# EAGLE library part IS43R16320D-TL (library crasbe)
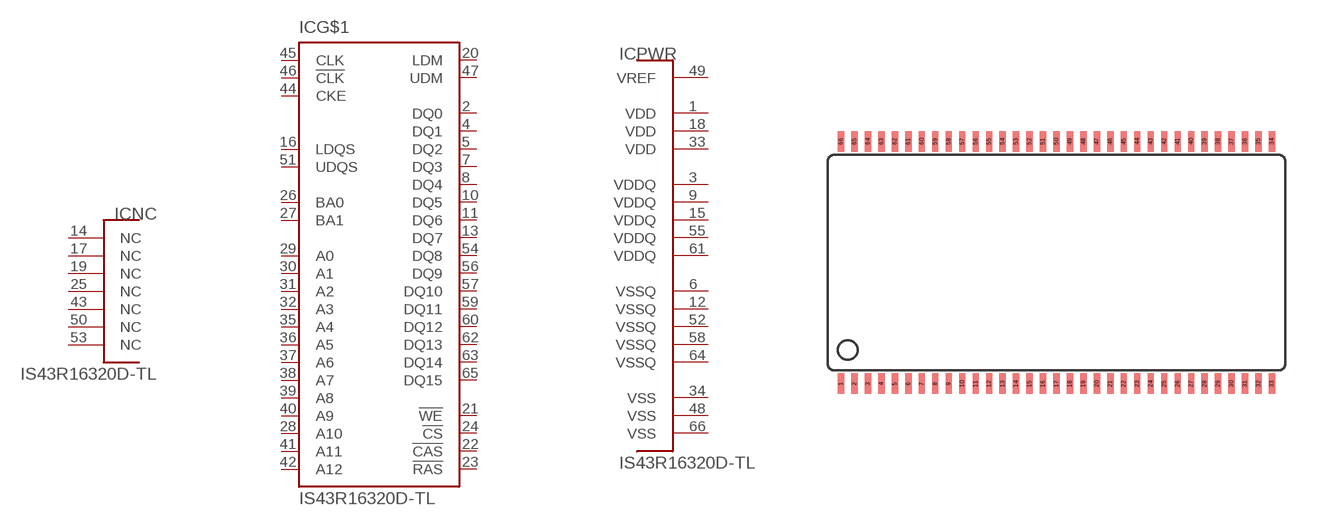
[diagram p43: symbol with the pads of TSOPII-66; footprint TSOPII-66]

Designator prefix IC; gates G$1=DDR-X16 NC=NC7 PWR=DDR-X16PWR

## IS43R16320D-TL  [TSOPII-66]
1  PWR:VDD  pwr
2  G$1:DQ0  hiz
3  PWR:VDDQ  pwr
4  G$1:DQ1  hiz
5  G$1:DQ2  hiz
6  PWR:VSSQ  pwr
7  G$1:DQ3  hiz
8  G$1:DQ4  hiz
9  PWR:VDDQ  pwr
10  G$1:DQ5  hiz
11  G$1:DQ6  hiz
12  PWR:VSSQ  pwr
13  G$1:DQ7  hiz
14  NC:NC  nc
15  PWR:VDDQ  pwr
16  G$1:LDQS  in
17  NC:NC  nc
18  PWR:VDD  pwr
19  NC:NC  nc
20  G$1:LDM  in
21  G$1:!WE  in
22  G$1:!CAS  in
23  G$1:!RAS  in
24  G$1:!CS  in
25  NC:NC  nc
26  G$1:BA0  in
27  G$1:BA1  in
28  G$1:A10  in
29  G$1:A0  in
30  G$1:A1  in
31  G$1:A2  in
32  G$1:A3  in
33  PWR:VDD  pwr
34  PWR:VSS  pwr
35  G$1:A4  in
36  G$1:A5  in
37  G$1:A6  in
38  G$1:A7  in
39  G$1:A8  in
40  G$1:A9  in
41  G$1:A11  in
42  G$1:A12  in
43  NC:NC  nc
44  G$1:CKE  in
45  G$1:CLK  in
46  G$1:!CLK  in
47  G$1:UDM  in
48  PWR:VSS  pwr
49  PWR:VREF  pwr
50  NC:NC  nc
51  G$1:UDQS  in
52  PWR:VSSQ  pwr
53  NC:NC  nc
54  G$1:DQ8  hiz
55  PWR:VDDQ  pwr
56  G$1:DQ9  hiz
57  G$1:DQ10  hiz
58  PWR:VSSQ  pwr
59  G$1:DQ11  hiz
60  G$1:DQ12  hiz
61  PWR:VDDQ  pwr
62  G$1:DQ13  hiz
63  G$1:DQ14  hiz
64  PWR:VSSQ  pwr
65  G$1:DQ15  hiz
66  PWR:VSS  pwr

## Footprint TSOPII-66 (pad centres in mm)
smd 0.305 x 0.991: 1 -10.075,-5.85; 2 -9.425,-5.85; 3 -8.775,-5.85; 4 -8.125,-5.85; 5 -7.475,-5.85; 6 -6.825,-5.85; 7 -6.175,-5.85; 8 -5.525,-5.85; 9 -4.875,-5.85; 10 -4.225,-5.85; 11 -3.575,-5.85; 12 -2.925,-5.85; 13 -2.275,-5.85; 14 -1.625,-5.85; 15 -0.975,-5.85; 16 -0.325,-5.85; 17 0.325,-5.85; 18 0.975,-5.85; 19 1.625,-5.85; 20 2.275,-5.85; 21 2.925,-5.85; 22 3.575,-5.85; 23 4.225,-5.85; 24 4.875,-5.85; 25 5.525,-5.85; 26 6.175,-5.85; 27 6.825,-5.85; 28 7.475,-5.85; 29 8.125,-5.85; 30 8.775,-5.85; 31 9.425,-5.85; 32 10.075,-5.85; 33 10.725,-5.85; 34 10.725,5.85; 35 10.075,5.85; 36 9.425,5.85; 37 8.775,5.85; 38 8.125,5.85; 39 7.475,5.85; 40 6.825,5.85; 41 6.175,5.85; 42 5.525,5.85; 43 4.875,5.85; 44 4.225,5.85; 45 3.575,5.85; 46 2.925,5.85; 47 2.275,5.85; 48 1.625,5.85; 49 0.975,5.85; 50 0.325,5.85; 51 -0.325,5.85; 52 -0.975,5.85; 53 -1.625,5.85; 54 -2.275,5.85; 55 -2.925,5.85; 56 -3.575,5.85; 57 -4.225,5.85; 58 -4.875,5.85; 59 -5.525,5.85; 60 -6.175,5.85; 61 -6.825,5.85; 62 -7.475,5.85; 63 -8.125,5.85; 64 -8.775,5.85; 65 -9.425,5.85; 66 -10.075,5.85